# EAGLE library part HCPL2530 (library optocoupler)
HEWLETT PACKARD OPTO COUPLER
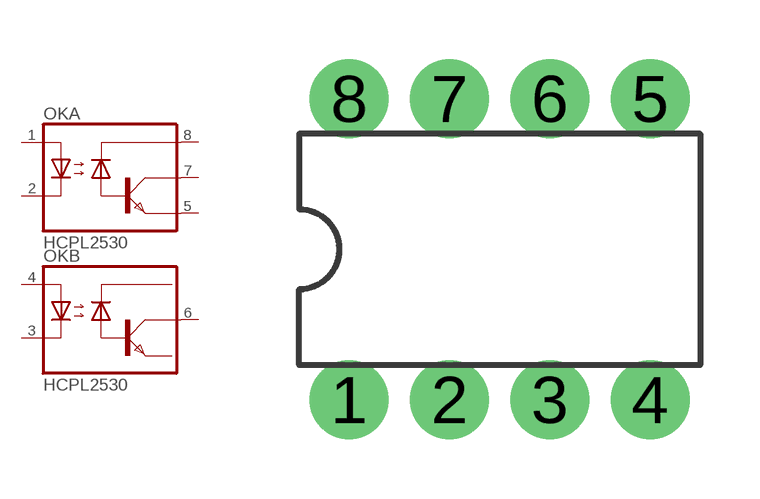
[diagram p21: symbol with the pads of DIL08; footprint DIL08]

Designator prefix OK; gates A=2530 B=2530A

## HCPL2530  [DIL08]
1  A:A1  pas
2  A:C1  pas
3  B:C2  pas
4  B:A2  pas
5  A:GND  pas
6  B:VO2  pas
7  A:VO1  pas
8  A:VCC  pas

## Footprint DIL08 (pad centres in mm)
Dual In Line Package
drill 0.813 pad 2 round: 1 -3.81,-3.81; 2 -1.27,-3.81; 3 1.27,-3.81; 4 3.81,-3.81; 5 3.81,3.81; 6 1.27,3.81; 7 -1.27,3.81; 8 -3.81,3.81